# Altium footprint library QFP_QuadFlatPackages.PcbLib: 6 footprints
Each footprint in its own frame and in the unit in brackets; x right, y up, seen from the top. Pads: shape width x height; smd on the part's side, far side on the other; paste and mask are expansions set on the pad; w line width, h text height; cw(c..) or ccw(c..) is an arc to the next point about the centre after c.
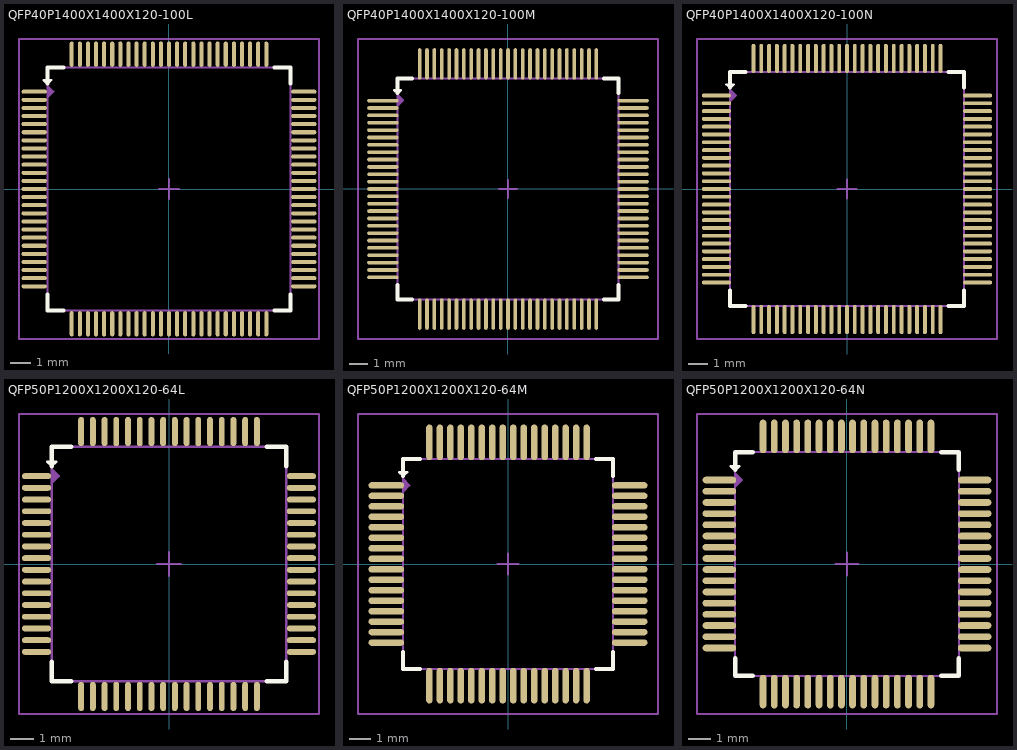
[diagram p0: the footprints below, top view; thin cyan lines are the x and y axes]

## QFP40P1400X1400X120-100L [mm] "QFP, 100-Leads, Body 12x12mm, Pitch 0.4mm, IPC High Density"
height 1.2
pads (100):
  oval 1.25x0.2 smd: 1(-6.65,4.8) 2(-6.65,4.4) 3(-6.65,4) 4(-6.65,3.6) 5(-6.65,3.2) 6(-6.65,2.8) 7(-6.65,2.4) 8(-6.65,2) 9(-6.65,1.6) 10(-6.65,1.2) 11(-6.65,0.8) 12(-6.65,0.4) 13(-6.65,0) 14(-6.65,-0.4) 15(-6.65,-0.8) 16(-6.65,-1.2) 17(-6.65,-1.6) 18(-6.65,-2) 19(-6.65,-2.4) 20(-6.65,-2.8) 21(-6.65,-3.2) 22(-6.65,-3.6) 23(-6.65,-4) 24(-6.65,-4.4) 25(-6.65,-4.8) 51(6.65,-4.8) 52(6.65,-4.4) 53(6.65,-4) 54(6.65,-3.6) 55(6.65,-3.2) 56(6.65,-2.8) 57(6.65,-2.4) 58(6.65,-2) 59(6.65,-1.6) 60(6.65,-1.2) 61(6.65,-0.8) 62(6.65,-0.4) 63(6.65,0) 64(6.65,0.4) 65(6.65,0.8) 66(6.65,1.2) 67(6.65,1.6) 68(6.65,2) 69(6.65,2.4) 70(6.65,2.8) 71(6.65,3.2) 72(6.65,3.6) 73(6.65,4) 74(6.65,4.4) 75(6.65,4.8)
  oval 0.2x1.25 smd: 26(-4.8,-6.65) 27(-4.4,-6.65) 28(-4,-6.65) 29(-3.6,-6.65) 30(-3.2,-6.65) 31(-2.8,-6.65) 32(-2.4,-6.65) 33(-2,-6.65) 34(-1.6,-6.65) 35(-1.2,-6.65) 36(-0.8,-6.65) 37(-0.4,-6.65) 38(0,-6.65) 39(0.4,-6.65) 40(0.8,-6.65) 41(1.2,-6.65) 42(1.6,-6.65) 43(2,-6.65) 44(2.4,-6.65) 45(2.8,-6.65) 46(3.2,-6.65) 47(3.6,-6.65) 48(4,-6.65) 49(4.4,-6.65) 50(4.8,-6.65) 76(4.8,6.65) 77(4.4,6.65) 78(4,6.65) 79(3.6,6.65) 80(3.2,6.65) 81(2.8,6.65) 82(2.4,6.65) 83(2,6.65) 84(1.6,6.65) 85(1.2,6.65) 86(0.8,6.65) 87(0.4,6.65) 88(0,6.65) 89(-0.4,6.65) 90(-0.8,6.65) 91(-1.2,6.65) 92(-1.6,6.65) 93(-2,6.65) 94(-2.4,6.65) 95(-2.8,6.65) 96(-3.2,6.65) 97(-3.6,6.65) 98(-4,6.65) 99(-4.4,6.65) 100(-4.8,6.65)
Top Overlay:
  lines w0.1: -6.2,5.375 -6,5.175 -5.8,5.375 -6.2,5.375
  lines w0.2: -6,-5.2 -6,-6 -5.2,-6 ; -6,5.2 -6,6 -5.2,6 ; 5.2,-6 6,-6 6,-5.2 ; 5.2,6 6,6 6,5.2
TopBody:
  lines w0.1: -6,4.5 -5.7,4.8 -6,5.1 ; -6,4.6 -5.8,4.8 -6,5 ; -6,4.7 -5.9,4.8 -6,4.9 ; -6,-6 6,-6 6,6 -6,6 -6,-6
  text ".Designator" at -0.635,-0.254 h0.5
TopCourtyard:
  lines w0.1: -0.5,0 0,0 ; 0,-0.5 0,0 ; 0,0.5 0,0 ; 0.5,0 0,0 ; -7.4,-7.4 7.4,-7.4 7.4,7.4 -7.4,7.4 -7.4,-7.4
3D body: height 1.2, standoff 0, extent -6,-6 6,6

## QFP40P1400X1400X120-100M [mm] "QFP, 100-Leads, Body 12x12mm, Pitch 0.4mm, IPC Low Density"
height 1.2
pads (100):
  oval 1.7x0.2 smd: 1(-6.8,4.8) 2(-6.8,4.4) 3(-6.8,4) 4(-6.8,3.6) 5(-6.8,3.2) 6(-6.8,2.8) 7(-6.8,2.4) 8(-6.8,2) 9(-6.8,1.6) 10(-6.8,1.2) 11(-6.8,0.8) 12(-6.8,0.4) 13(-6.8,0) 14(-6.8,-0.4) 15(-6.8,-0.8) 16(-6.8,-1.2) 17(-6.8,-1.6) 18(-6.8,-2) 19(-6.8,-2.4) 20(-6.8,-2.8) 21(-6.8,-3.2) 22(-6.8,-3.6) 23(-6.8,-4) 24(-6.8,-4.4) 25(-6.8,-4.8) 51(6.8,-4.8) 52(6.8,-4.4) 53(6.8,-4) 54(6.8,-3.6) 55(6.8,-3.2) 56(6.8,-2.8) 57(6.8,-2.4) 58(6.8,-2) 59(6.8,-1.6) 60(6.8,-1.2) 61(6.8,-0.8) 62(6.8,-0.4) 63(6.8,0) 64(6.8,0.4) 65(6.8,0.8) 66(6.8,1.2) 67(6.8,1.6) 68(6.8,2) 69(6.8,2.4) 70(6.8,2.8) 71(6.8,3.2) 72(6.8,3.6) 73(6.8,4) 74(6.8,4.4) 75(6.8,4.8)
  oval 0.2x1.7 smd: 26(-4.8,-6.8) 27(-4.4,-6.8) 28(-4,-6.8) 29(-3.6,-6.8) 30(-3.2,-6.8) 31(-2.8,-6.8) 32(-2.4,-6.8) 33(-2,-6.8) 34(-1.6,-6.8) 35(-1.2,-6.8) 36(-0.8,-6.8) 37(-0.4,-6.8) 38(0,-6.8) 39(0.4,-6.8) 40(0.8,-6.8) 41(1.2,-6.8) 42(1.6,-6.8) 43(2,-6.8) 44(2.4,-6.8) 45(2.8,-6.8) 46(3.2,-6.8) 47(3.6,-6.8) 48(4,-6.8) 49(4.4,-6.8) 50(4.8,-6.8) 76(4.8,6.8) 77(4.4,6.8) 78(4,6.8) 79(3.6,6.8) 80(3.2,6.8) 81(2.8,6.8) 82(2.4,6.8) 83(2,6.8) 84(1.6,6.8) 85(1.2,6.8) 86(0.8,6.8) 87(0.4,6.8) 88(0,6.8) 89(-0.4,6.8) 90(-0.8,6.8) 91(-1.2,6.8) 92(-1.6,6.8) 93(-2,6.8) 94(-2.4,6.8) 95(-2.8,6.8) 96(-3.2,6.8) 97(-3.6,6.8) 98(-4,6.8) 99(-4.4,6.8) 100(-4.8,6.8)
Top Overlay:
  lines w0.1: -6.2,5.375 -6,5.175 -5.8,5.375 -6.2,5.375
  lines w0.2: -6,-5.2 -6,-6 -5.2,-6 ; -6,5.2 -6,6 -5.2,6 ; 5.2,-6 6,-6 6,-5.2 ; 5.2,6 6,6 6,5.2
TopBody:
  lines w0.1: -6,4.525 -5.7,4.825 -6,5.125 ; -6,4.625 -5.8,4.825 -6,5.025 ; -6,4.725 -5.9,4.825 -6,4.925 ; -6,-6 6,-6 6,6 -6,6 -6,-6
  text ".Designator" at -0.635,-0.254 h0.5
TopCourtyard:
  lines w0.1: -0.5,0 0,0 ; 0,-0.5 0,0 ; 0,0.5 0,0 ; 0.5,0 0,0 ; -8.15,-8.15 8.15,-8.15 8.15,8.15 -8.15,8.15 -8.15,-8.15
3D body: height 1.2, standoff 0, extent -6,-6 6,6

## QFP40P1400X1400X120-100N [mm] "QFP, 100-Leads, Body 12x12mm, Pitch 0.4mm, IPC Medium Density"
height 1.2
pads (100):
  oval 1.5x0.2 smd: 1(-6.7,4.8) 2(-6.7,4.4) 3(-6.7,4) 4(-6.7,3.6) 5(-6.7,3.2) 6(-6.7,2.8) 7(-6.7,2.4) 8(-6.7,2) 9(-6.7,1.6) 10(-6.7,1.2) 11(-6.7,0.8) 12(-6.7,0.4) 13(-6.7,0) 14(-6.7,-0.4) 15(-6.7,-0.8) 16(-6.7,-1.2) 17(-6.7,-1.6) 18(-6.7,-2) 19(-6.7,-2.4) 20(-6.7,-2.8) 21(-6.7,-3.2) 22(-6.7,-3.6) 23(-6.7,-4) 24(-6.7,-4.4) 25(-6.7,-4.8) 51(6.7,-4.8) 52(6.7,-4.4) 53(6.7,-4) 54(6.7,-3.6) 55(6.7,-3.2) 56(6.7,-2.8) 57(6.7,-2.4) 58(6.7,-2) 59(6.7,-1.6) 60(6.7,-1.2) 61(6.7,-0.8) 62(6.7,-0.4) 63(6.7,0) 64(6.7,0.4) 65(6.7,0.8) 66(6.7,1.2) 67(6.7,1.6) 68(6.7,2) 69(6.7,2.4) 70(6.7,2.8) 71(6.7,3.2) 72(6.7,3.6) 73(6.7,4) 74(6.7,4.4) 75(6.7,4.8)
  oval 0.2x1.5 smd: 26(-4.8,-6.7) 27(-4.4,-6.7) 28(-4,-6.7) 29(-3.6,-6.7) 30(-3.2,-6.7) 31(-2.8,-6.7) 32(-2.4,-6.7) 33(-2,-6.7) 34(-1.6,-6.7) 35(-1.2,-6.7) 36(-0.8,-6.7) 37(-0.4,-6.7) 38(0,-6.7) 39(0.4,-6.7) 40(0.8,-6.7) 41(1.2,-6.7) 42(1.6,-6.7) 43(2,-6.7) 44(2.4,-6.7) 45(2.8,-6.7) 46(3.2,-6.7) 47(3.6,-6.7) 48(4,-6.7) 49(4.4,-6.7) 50(4.8,-6.7) 76(4.8,6.7) 77(4.4,6.7) 78(4,6.7) 79(3.6,6.7) 80(3.2,6.7) 81(2.8,6.7) 82(2.4,6.7) 83(2,6.7) 84(1.6,6.7) 85(1.2,6.7) 86(0.8,6.7) 87(0.4,6.7) 88(0,6.7) 89(-0.4,6.7) 90(-0.8,6.7) 91(-1.2,6.7) 92(-1.6,6.7) 93(-2,6.7) 94(-2.4,6.7) 95(-2.8,6.7) 96(-3.2,6.7) 97(-3.6,6.7) 98(-4,6.7) 99(-4.4,6.7) 100(-4.8,6.7)
Top Overlay:
  lines w0.1: -6.2,5.375 -5.8,5.375 -6,5.175 -6.2,5.375
  lines w0.2: -6,-5.2 -6,-6 -5.2,-6 ; -6,5.2 -6,6 -5.2,6 ; 5.2,-6 6,-6 6,-5.2 ; 5.2,6 6,6 6,5.2
TopBody:
  lines w0.1: -6,4.5 -5.7,4.8 -6,5.1 ; -6,4.6 -5.8,4.8 -6,5 ; -6,4.7 -5.9,4.8 -6,4.9 ; -6,-6 -6,6 6,6 6,-6 -6,-6
  text ".Designator" at -0.635,-0.254 h0.5
TopCourtyard:
  lines w0.1: -0.5,0 0,0 ; 0,-0.5 0,0 ; 0,0.5 0,0 ; 0.5,0 0,0 ; -7.7,-7.7 -7.7,7.7 7.7,7.7 7.7,-7.7 -7.7,-7.7
3D body: height 1.2, standoff 0, extent -6,-6 6,6

## QFP50P1200X1200X120-64L [mm] "Very Thin QFP, 64-Leads, Body 10x10mm, Pitch 0.5mm, IPC High Density"
height 1.2
pads (64):
  oval 1.25x0.25 smd: 1(-5.65,3.75) 2(-5.65,3.25) 3(-5.65,2.75) 4(-5.65,2.25) 5(-5.65,1.75) 6(-5.65,1.25) 7(-5.65,0.75) 8(-5.65,0.25) 9(-5.65,-0.25) 10(-5.65,-0.75) 11(-5.65,-1.25) 12(-5.65,-1.75) 13(-5.65,-2.25) 14(-5.65,-2.75) 15(-5.65,-3.25) 16(-5.65,-3.75) 33(5.65,-3.75) 34(5.65,-3.25) 35(5.65,-2.75) 36(5.65,-2.25) 37(5.65,-1.75) 38(5.65,-1.25) 39(5.65,-0.75) 40(5.65,-0.25) 41(5.65,0.25) 42(5.65,0.75) 43(5.65,1.25) 44(5.65,1.75) 45(5.65,2.25) 46(5.65,2.75) 47(5.65,3.25) 48(5.65,3.75)
  oval 0.25x1.25 smd: 17(-3.75,-5.65) 18(-3.25,-5.65) 19(-2.75,-5.65) 20(-2.25,-5.65) 21(-1.75,-5.65) 22(-1.25,-5.65) 23(-0.75,-5.65) 24(-0.25,-5.65) 25(0.25,-5.65) 26(0.75,-5.65) 27(1.25,-5.65) 28(1.75,-5.65) 29(2.25,-5.65) 30(2.75,-5.65) 31(3.25,-5.65) 32(3.75,-5.65) 49(3.75,5.65) 50(3.25,5.65) 51(2.75,5.65) 52(2.25,5.65) 53(1.75,5.65) 54(1.25,5.65) 55(0.75,5.65) 56(0.25,5.65) 57(-0.25,5.65) 58(-0.75,5.65) 59(-1.25,5.65) 60(-1.75,5.65) 61(-2.25,5.65) 62(-2.75,5.65) 63(-3.25,5.65) 64(-3.75,5.65)
Top Overlay:
  lines w0.1: -5.2,4.375 -4.8,4.375 -5,4.175 -5.2,4.375
  lines w0.2: -5,-4.175 -5,-5 -4.175,-5 ; -5,4.175 -5,5 -4.175,5 ; 4.175,-5 5,-5 5,-4.175 ; 4.175,5 5,5 5,4.175
TopBody:
  lines w0.1: -5,3.45 -4.7,3.75 -5,4.05 ; -5,3.55 -4.8,3.75 -5,3.95 ; -5,3.65 -4.9,3.75 -5,3.85 ; -5,-5 -5,5 5,5 5,-5 -5,-5
TopCourtyard:
  lines w0.1: -0.5,0 0,0 ; 0,-0.5 0,0 ; 0,0.5 0,0 ; 0.5,0 0,0 ; -6.4,-6.4 -6.4,6.4 6.4,6.4 6.4,-6.4 -6.4,-6.4
3D body: height 1.2, standoff 0, extent -6.024,-6.024 6.025,6.025

## QFP50P1200X1200X120-64M [mm] "Very Thin QFP, 64-Leads, Body 10x10mm, Pitch 0.5mm, IPC Low Density"
height 1.2
pads (64):
  oval 1.7x0.3 smd: 1(-5.8,3.75) 2(-5.8,3.25) 3(-5.8,2.75) 4(-5.8,2.25) 5(-5.8,1.75) 6(-5.8,1.25) 7(-5.8,0.75) 8(-5.8,0.25) 9(-5.8,-0.25) 10(-5.8,-0.75) 11(-5.8,-1.25) 12(-5.8,-1.75) 13(-5.8,-2.25) 14(-5.8,-2.75) 15(-5.8,-3.25) 16(-5.8,-3.75) 33(5.8,-3.75) 34(5.8,-3.25) 35(5.8,-2.75) 36(5.8,-2.25) 37(5.8,-1.75) 38(5.8,-1.25) 39(5.8,-0.75) 40(5.8,-0.25) 41(5.8,0.25) 42(5.8,0.75) 43(5.8,1.25) 44(5.8,1.75) 45(5.8,2.25) 46(5.8,2.75) 47(5.8,3.25) 48(5.8,3.75)
  oval 0.3x1.7 smd: 17(-3.75,-5.8) 18(-3.25,-5.8) 19(-2.75,-5.8) 20(-2.25,-5.8) 21(-1.75,-5.8) 22(-1.25,-5.8) 23(-0.75,-5.8) 24(-0.25,-5.8) 25(0.25,-5.8) 26(0.75,-5.8) 27(1.25,-5.8) 28(1.75,-5.8) 29(2.25,-5.8) 30(2.75,-5.8) 31(3.25,-5.8) 32(3.75,-5.8) 49(3.75,5.8) 50(3.25,5.8) 51(2.75,5.8) 52(2.25,5.8) 53(1.75,5.8) 54(1.25,5.8) 55(0.75,5.8) 56(0.25,5.8) 57(-0.25,5.8) 58(-0.75,5.8) 59(-1.25,5.8) 60(-1.75,5.8) 61(-2.25,5.8) 62(-2.75,5.8) 63(-3.25,5.8) 64(-3.75,5.8)
Top Overlay:
  lines w0.1: -5.2,4.375 -5,4.175 -4.8,4.375 -5.2,4.375
  lines w0.2: -5,-4.2 -5,-5 -4.2,-5 ; -5,4.2 -5,5 -4.2,5 ; 4.2,-5 5,-5 5,-4.2 ; 4.2,5 5,5 5,4.2
TopBody:
  lines w0.1: -5,3.45 -4.7,3.75 -5,4.05 ; -5,3.55 -4.8,3.75 -5,3.95 ; -5,3.65 -4.9,3.75 -5,3.85 ; -5,-5 5,-5 5,5 -5,5 -5,-5
TopCourtyard:
  lines w0.1: -0.5,0 0,0 ; 0,-0.5 0,0 ; 0,0.5 0,0 ; 0.5,0 0,0 ; -7.15,-7.15 7.15,-7.15 7.15,7.15 -7.15,7.15 -7.15,-7.15
3D body: height 1.2, standoff 0, extent -6.024,-6.024 6.025,6.025

## QFP50P1200X1200X120-64N [mm] "Very Thin QFP, 64-Leads, Body 10x10mm, Pitch 0.5mm, IPC Medium Density"
height 1.2
pads (64):
  oval 1.5x0.3 smd: 1(-5.7,3.75) 2(-5.7,3.25) 3(-5.7,2.75) 4(-5.7,2.25) 5(-5.7,1.75) 6(-5.7,1.25) 7(-5.7,0.75) 8(-5.7,0.25) 9(-5.7,-0.25) 10(-5.7,-0.75) 11(-5.7,-1.25) 12(-5.7,-1.75) 13(-5.7,-2.25) 14(-5.7,-2.75) 15(-5.7,-3.25) 16(-5.7,-3.75) 33(5.7,-3.75) 34(5.7,-3.25) 35(5.7,-2.75) 36(5.7,-2.25) 37(5.7,-1.75) 38(5.7,-1.25) 39(5.7,-0.75) 40(5.7,-0.25) 41(5.7,0.25) 42(5.7,0.75) 43(5.7,1.25) 44(5.7,1.75) 45(5.7,2.25) 46(5.7,2.75) 47(5.7,3.25) 48(5.7,3.75)
  oval 0.3x1.5 smd: 17(-3.75,-5.7) 18(-3.25,-5.7) 19(-2.75,-5.7) 20(-2.25,-5.7) 21(-1.75,-5.7) 22(-1.25,-5.7) 23(-0.75,-5.7) 24(-0.25,-5.7) 25(0.25,-5.7) 26(0.75,-5.7) 27(1.25,-5.7) 28(1.75,-5.7) 29(2.25,-5.7) 30(2.75,-5.7) 31(3.25,-5.7) 32(3.75,-5.7) 49(3.75,5.7) 50(3.25,5.7) 51(2.75,5.7) 52(2.25,5.7) 53(1.75,5.7) 54(1.25,5.7) 55(0.75,5.7) 56(0.25,5.7) 57(-0.25,5.7) 58(-0.75,5.7) 59(-1.25,5.7) 60(-1.75,5.7) 61(-2.25,5.7) 62(-2.75,5.7) 63(-3.25,5.7) 64(-3.75,5.7)
Top Overlay:
  lines w0.1: -5.2,4.375 -5,4.175 -4.8,4.375 -5.2,4.375
  lines w0.2: -5,-4.2 -5,-5 -4.2,-5 ; -5,4.2 -5,5 -4.2,5 ; 4.2,-5 5,-5 5,-4.2 ; 4.2,5 5,5 5,4.2
TopBody:
  lines w0.1: -5,3.45 -4.7,3.75 -5,4.05 ; -5,3.55 -4.8,3.75 -5,3.95 ; -5,3.65 -4.9,3.75 -5,3.85 ; -5,-5 5,-5 5,5 -5,5 -5,-5
TopCourtyard:
  lines w0.1: -0.5,0 0,0 ; 0,-0.5 0,0 ; 0,0.5 0,0 ; 0.5,0 0,0 ; -6.7,-6.7 6.7,-6.7 6.7,6.7 -6.7,6.7 -6.7,-6.7
3D body: height 1.2, standoff 0, extent -6.024,-6.024 6.025,6.025